# EAGLE library part MCP6022*/? (library MCP)
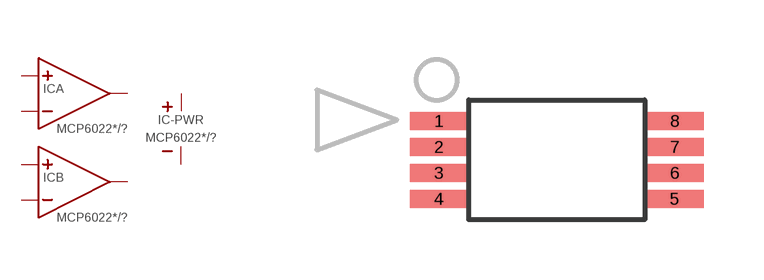
[diagram p2: symbol with the pads of TSSOP-8; footprint TSSOP-8]

Designator prefix IC; gates A=OPAMP B=OPAMP -PWR=PWR

## MCP6022-E/ST (MF: Microchip), MCP6022-I/ST (MF: Microchip), MCP6022T-E/ST (MF: Microchip; MPN: MCP6022T-E/ST)  [TSSOP-8]
1  A:OUT  out
2  A:INV  in
3  A:NINV  in
4  -PWR:V-  pwr
5  B:NINV  in
6  B:INV  in
7  B:OUT  out
8  -PWR:V+  pwr

## Footprint TSSOP-8 (pad centres in mm)
smd 1.45 x 0.45: 1 -2.95,0.975; 2 -2.95,0.325; 3 -2.95,-0.325; 4 -2.95,-0.975; 5 2.95,-0.975; 6 2.95,-0.325; 7 2.95,0.325; 8 2.95,0.975